# EAGLE library part E7RP (library resistor-sil)
SIL RESISTOR
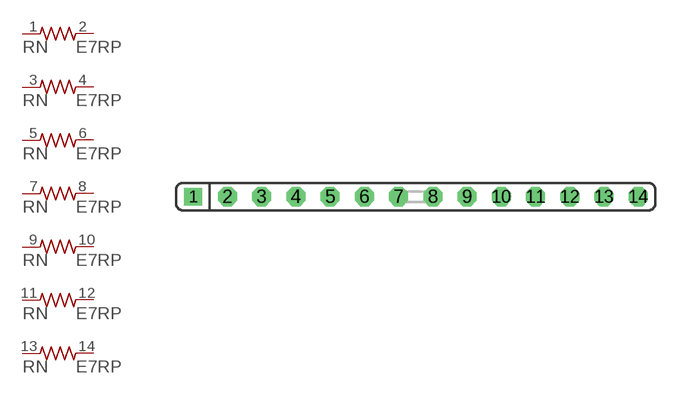
[diagram p14: symbol with the pads of SIL14; footprint SIL14]

Designator prefix RN; gates A=RPV B=RPV C=RPV D=RPV E=RPV F=RPV G=RPV

## E7RP  [SIL14]
1  A:1  pas
2  A:2  pas
3  B:1  pas
4  B:2  pas
5  C:1  pas
6  C:2  pas
7  D:1  pas
8  D:2  pas
9  E:1  pas
10  E:2  pas
11  F:1  pas
12  F:2  pas
13  G:1  pas
14  G:2  pas

## Footprint SIL14 (pad centres in mm)
Single In Line
drill 0.813 square: 1 -16.51,0
drill 0.813 pad 1.422 octagon: 2 -13.97,0; 3 -11.43,0; 4 -8.89,0; 5 -6.35,0; 6 -3.81,0; 7 -1.27,0; 8 1.27,0; 9 3.81,0; 10 6.35,0; 11 8.89,0; 12 11.43,0; 13 13.97,0; 14 16.51,0